# Altium schematic symbol library LAB3+.SchLib: 2 symbols
Pins are listed as number, name and electrical type; pins without a type are passive.

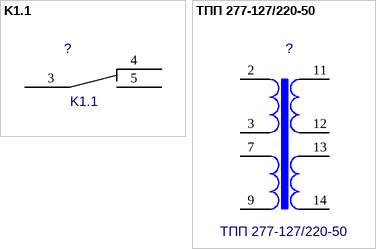
[diagram p0: symbols K1.1 to ТПП 277-127/220-50]

## K1.1
designator ?
Value: *
footprint K1.1_K1.1(Primary)
pins: 3, 4, 5

## ТПП 277-127/220-50
designator ?
Value: *
footprint ТПП 277-127/220-50_ТПП 277-127/220-50(Primary)
pins: 2, 3, 7, 9, 11, 12, 13, 14